# EAGLE library part PTN78060HAH (library PTN78060HAH)
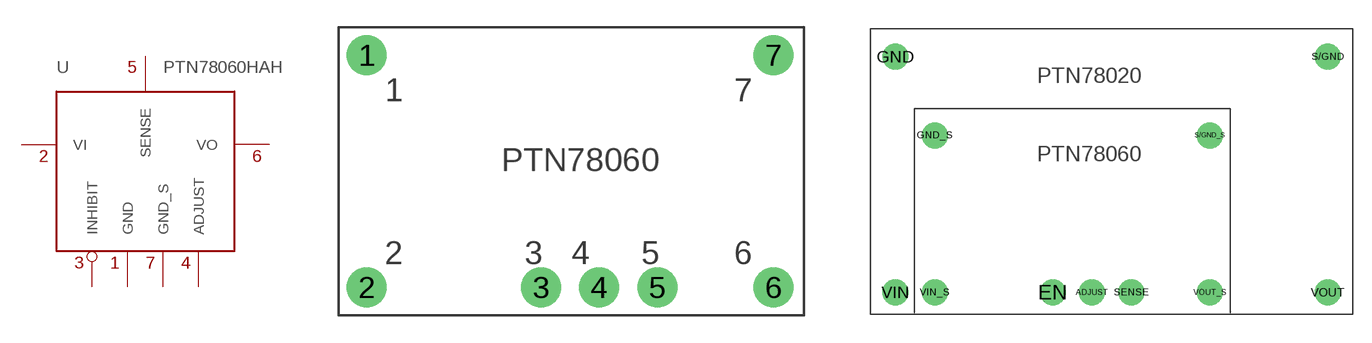
[diagram p0: symbol with the pads of PTN78060HAH; footprints PTN78060HAH, COMBINED]

Designator prefix -

## PTN78060HAH (Availability: Warning; Description: RAC04 Series 4 W Single Output 3.3 V Short Circuit Protect AC/DC Power Supply; MF: Recom Power; MP: RAC04-3.3SC/230; Package: DIP-7 Recom Power; Price: 14.67 USD)  [PTN78060HAH]
1  GND
2  VI
3  INHIBIT
4  ADJUST
5  SENSE
6  VO
7  GND_S

## PTN78060HAHCOMBINED (Availability: Warning; Description: RAC04 Series 4 W Single Output 3.3 V Short Circuit Protect AC/DC Power Supply; MF: Recom Power; MP: RAC04-3.3SC/230; Package: DIP-7 Recom Power; Price: 14.67 USD)  [COMBINED]
ADJUST  ADJUST
EN  INHIBIT
GND  GND
GND_S  GND
S/GND  GND_S
S/GND_S  GND_S
SENSE  SENSE
VIN  VI
VIN_S  VI
VOUT  VO
VOUT_S  VO

## Footprint PTN78060HAH (pad centres in mm)
drill 1.1 pad 2.184: 1 -11.176,6.35; 2 -11.176,-6.35; 3 -1.651,-6.35; 4 1.524,-6.35; 5 4.699,-6.35; 6 11.049,-6.35; 7 11.049,6.35

## Footprint COMBINED (pad centres in mm)
drill 1.4: ADJUST 0,0.001; EN -3.175,0.001; GND -15.875,19.051; GND_S -12.7,12.701; S/GND 19.05,19.051; S/GND_S 9.525,12.701; SENSE 3.175,0.001; VIN -15.875,0.001; VIN_S -12.7,0.001; VOUT 19.05,0.001; VOUT_S 9.525,0.001